# EAGLE library part USR-C322 (library c322)
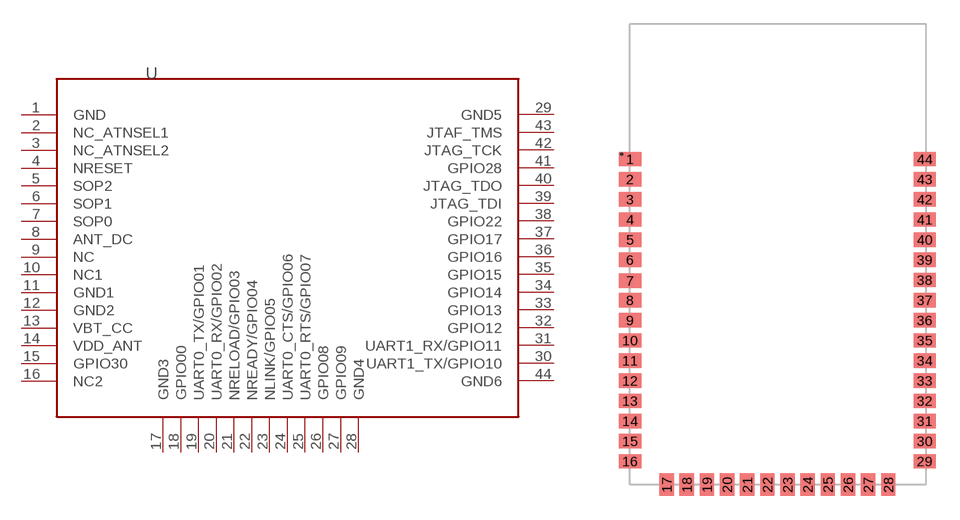
[diagram p0: symbol with the pads of USR-C322; footprint USR-C322]

Designator prefix -

## USR-C322  [USR-C322]
1  GND
2  NC_ATNSEL1
3  NC_ATNSEL2
4  NRESET
5  SOP2
6  SOP1
7  SOP0
8  ANT_DC
9  NC
10  NC1
11  GND1
12  GND2
13  VBT_CC
14  VDD_ANT
15  GPIO30
16  NC2
17  GND3
18  GPIO00
19  UART0_TX/GPIO01
20  UART0_RX/GPIO02
21  NRELOAD/GPIO03
22  NREADY/GPIO04
23  NLINK/GPIO05
24  UART0_CTS/GPIO06
25  UART0_RTS/GPIO07
26  GPIO08
27  GPIO09
28  GND4
29  GND5
30  UART1_TX/GPIO10
31  UART1_RX/GPIO11
32  GPIO12
33  GPIO13
34  GPIO14
35  GPIO15
36  GPIO16
37  GPIO17
38  GPIO22
39  JTAG_TDI
40  JTAG_TDO
41  GPIO28
42  JTAG_TCK
43  JTAF_TMS
44  GND6

## Footprint USR-C322 (pad centres in mm)
smd 1.4 x 0.9: 1 -2.3,20.52; 2 -2.3,19.25; 3 -2.3,17.98; 4 -2.3,16.71; 5 -2.3,15.44; 6 -2.3,14.17; 7 -2.29,12.85; 8 -2.3,11.63; 9 -2.3,10.36; 10 -2.3,9.09; 11 -2.3,7.82; 12 -2.3,6.55; 13 -2.3,5.28; 14 -2.3,4.01; 15 -2.3,2.74; 16 -2.3,1.47; 29 16.27,1.47; 30 16.27,2.74; 31 16.27,4.01; 32 16.27,5.28; 33 16.27,6.55; 34 16.27,7.82; 35 16.27,9.09; 36 16.27,10.36; 37 16.27,11.63; 38 16.27,12.9; 39 16.27,14.17; 40 16.27,15.44; 41 16.27,16.71; 42 16.27,17.98; 43 16.27,19.25; 44 16.27,20.52
smd 0.9 x 1.4: 17 0,0; 18 1.27,0; 19 2.54,0; 20 3.81,0; 21 5.08,0; 22 6.35,0; 23 7.62,0; 24 8.89,0; 25 10.16,0; 26 11.43,0; 27 12.7,0; 28 13.97,0